# EAGLE library part PLCC32-SOCKET (library C1600R)
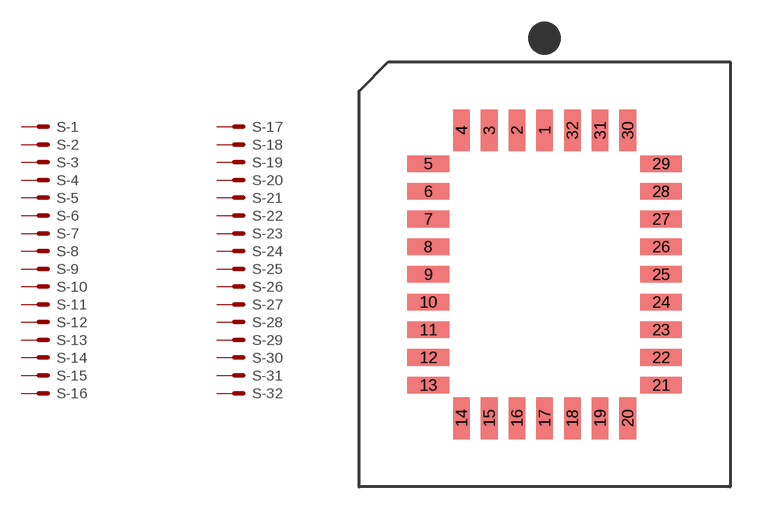
[diagram p2: symbol with the pads of PLCC32-SOCKET; footprint PLCC32-SOCKET]

Designator prefix S; gates -1=MS -2=MS -3=MS -4=MS -5=MS -6=MS -7=MS -8=MS -9=MS -10=MS -11=MS -12=MS -13=MS -14=MS -15=MS -16=MS -17=MS -18=MS -19=MS -20=MS -21=MS -22=MS -23=MS -24=MS -25=MS -26=MS -27=MS -28=MS -29=MS -30=MS -31=MS -32=MS

## PLCC32-SOCKET  [PLCC32-SOCKET]
1  -1:MS  pas
2  -2:MS  pas
3  -3:MS  pas
4  -4:MS  pas
5  -5:MS  pas
6  -6:MS  pas
7  -7:MS  pas
8  -8:MS  pas
9  -9:MS  pas
10  -10:MS  pas
11  -11:MS  pas
12  -12:MS  pas
13  -13:MS  pas
14  -14:MS  pas
15  -15:MS  pas
16  -16:MS  pas
17  -17:MS  pas
18  -18:MS  pas
19  -19:MS  pas
20  -20:MS  pas
21  -21:MS  pas
22  -22:MS  pas
23  -23:MS  pas
24  -24:MS  pas
25  -25:MS  pas
26  -26:MS  pas
27  -27:MS  pas
28  -28:MS  pas
29  -29:MS  pas
30  -30:MS  pas
31  -31:MS  pas
32  -32:MS  pas

## Footprint PLCC32-SOCKET (pad centres in mm)
smd 0.76 x 1.91: 1 0,6.605; 2 -1.27,6.605; 3 -2.54,6.605; 4 -3.81,6.605; 14 -3.81,-6.605; 15 -2.54,-6.605; 16 -1.27,-6.605; 17 0,-6.605; 18 1.27,-6.605; 19 2.54,-6.605; 20 3.81,-6.605; 30 3.81,6.605; 31 2.54,6.605; 32 1.27,6.605
smd 1.91 x 0.76: 5 -5.335,5.08; 6 -5.335,3.81; 7 -5.335,2.54; 8 -5.335,1.27; 9 -5.335,0; 10 -5.335,-1.27; 11 -5.335,-2.54; 12 -5.335,-3.81; 13 -5.335,-5.08; 21 5.335,-5.08; 22 5.335,-3.81; 23 5.335,-2.54; 24 5.335,-1.27; 25 5.335,0; 26 5.335,1.27; 27 5.335,2.54; 28 5.335,3.81; 29 5.335,5.08